# EAGLE library part MCP2562 (library Communication)
CAN trasceiver
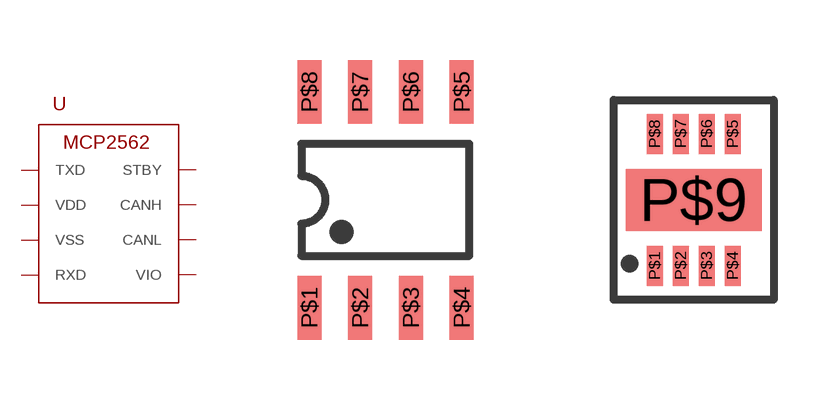
[diagram p0: symbol with the pads of SOIC8; footprints SOIC8, DFN8]

Designator prefix U

## MCP2562/SOIC-8  [SOIC8]
P$1  TXD
P$2  VSS
P$3  VDD
P$4  RXD
P$5  VIO
P$6  CANL
P$7  CANH
P$8  STBY

## MCP2562/DFN8  [DFN8]
P$1  TXD
P$2  VSS
P$3  VDD
P$4  RXD
P$5  VIO
P$6  CANL
P$7  CANH
P$8  STBY
P$9  VSS

## Footprint SOIC8 (pad centres in mm)
smd 0.6 x 1.6: P$1 0,-0.5; P$2 1.27,-0.5; P$3 2.54,-0.5; P$4 3.81,-0.5; P$5 3.81,4.9; P$6 2.54,4.9; P$7 1.27,4.9; P$8 0,4.9

## Footprint DFN8 (pad centres in mm)
smd 0.4 x 1: P$1 -0.975,-1.65; P$2 -0.325,-1.65; P$3 0.325,-1.65; P$4 0.975,-1.65; P$5 0.975,1.65; P$6 0.325,1.65; P$7 -0.325,1.65; P$8 -0.975,1.65
smd 3.4 x 1.55: P$9 0,0